# EAGLE library part 418317270907 (library Wurth_Elektronik_Electromechanic_Switch_rev15d)
WS-PT 2.54 mm piano type compact THT Dip Switch with raised actuator, 7 Pole
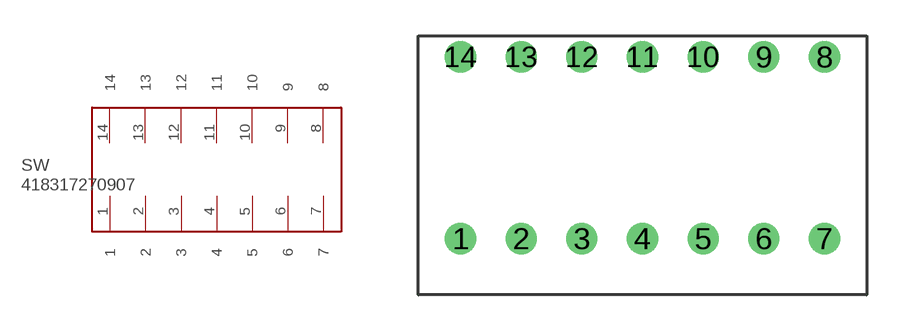
[diagram p97: symbol with the pads of 418317270907; footprint 418317270907]

Designator prefix SW

## 418317270907  [418317270907]
1  1
2  2
3  3
4  4
5  5
6  6
7  7
8  8
9  9
10  10
11  11
12  12
13  13
14  14

## Footprint 418317270907 (pad centres in mm)
WS-PT 2.54 mm piano type compact THT Dip Switch with raised actuator, 7 Pole
drill 0.8: 1 -7.62,-3.81; 2 -5.08,-3.81; 3 -2.54,-3.81; 4 0,-3.81; 5 2.54,-3.81; 6 5.08,-3.81; 7 7.62,-3.81; 8 7.62,3.81; 9 5.08,3.81; 10 2.54,3.81; 11 0,3.81; 12 -2.54,3.81; 13 -5.08,3.81; 14 -7.62,3.81